# Altium footprint library IC_SMD_BGA.PCBLIB: 109 footprints (part 3 of 14)
Each footprint in its own frame and in the unit in brackets; x right, y up, seen from the top. Pads: shape width x height; smd on the part's side, far side on the other; paste and mask are expansions set on the pad; w line width, h text height; cw(c..) or ccw(c..) is an arc to the next point about the centre after c.
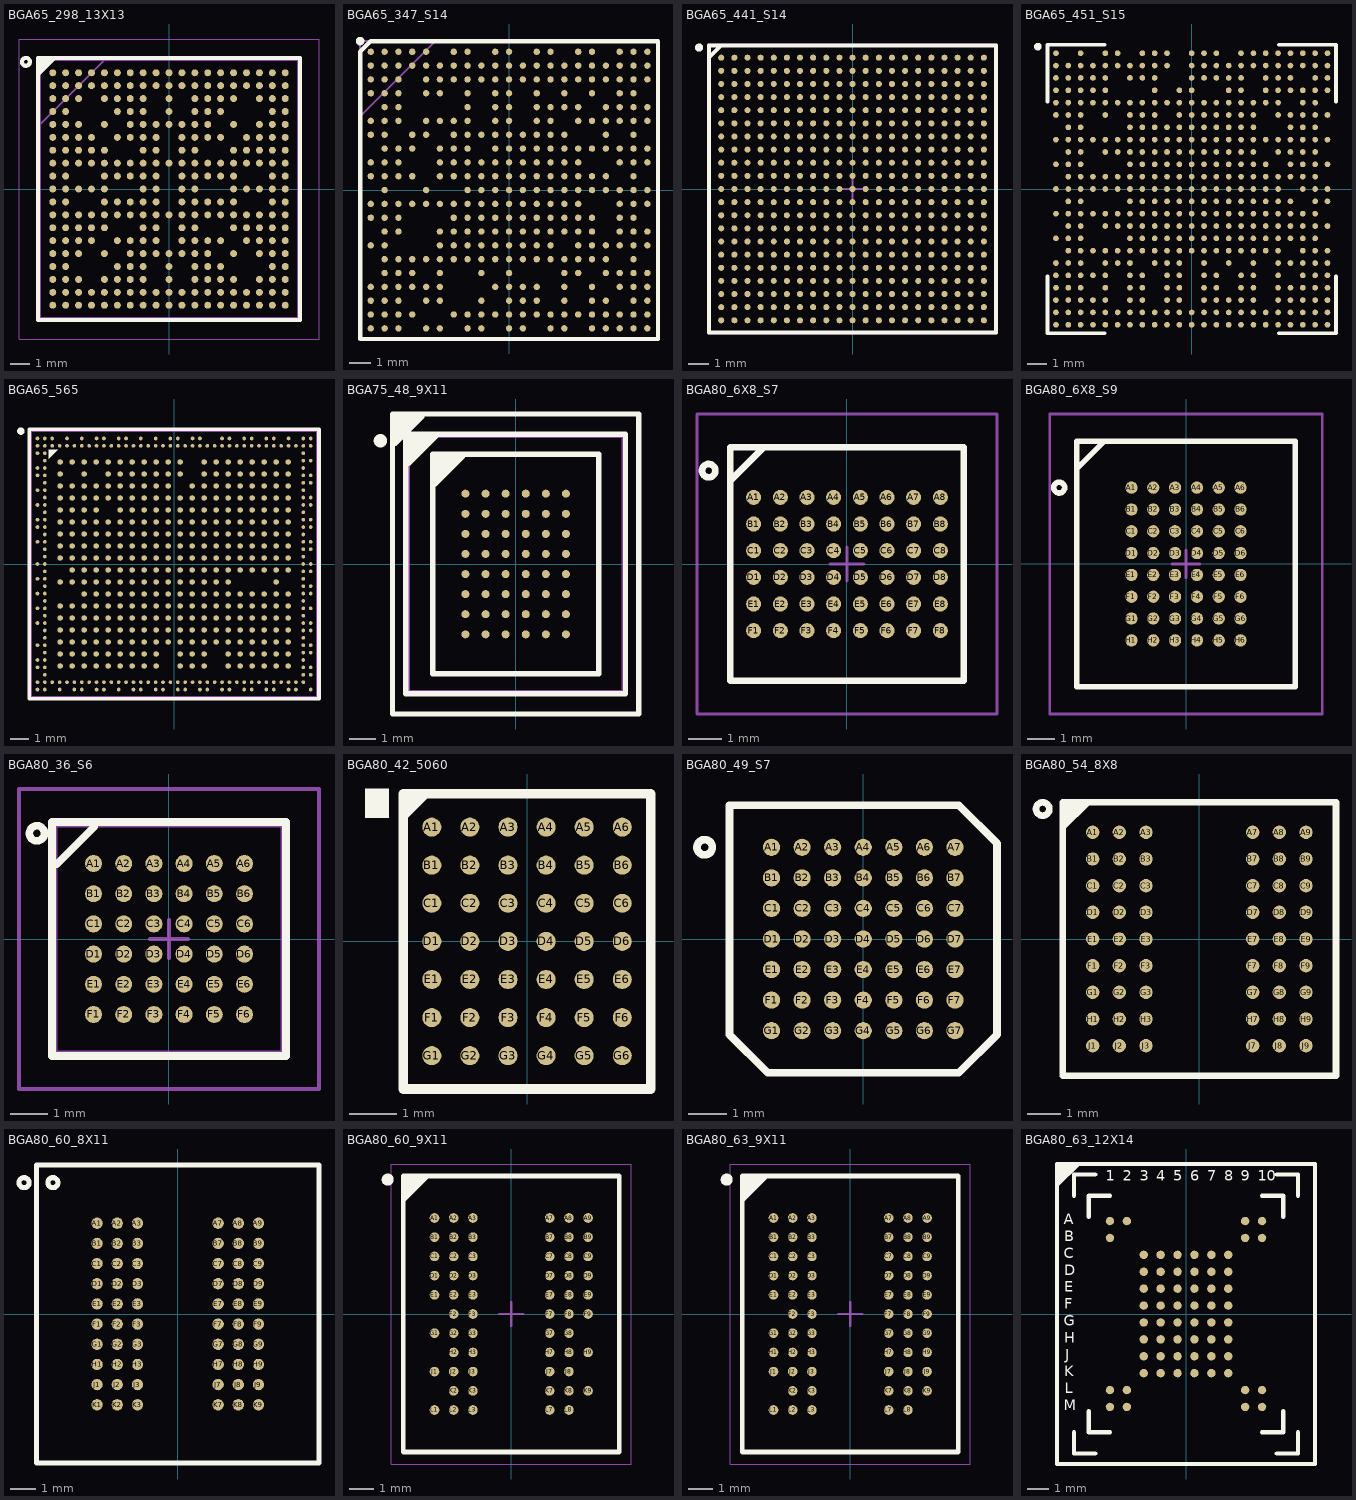
[diagram p2: the footprints below, top view; thin cyan lines are the x and y axes]

## BGA65_298_13X13 [mm] "BGA-298 ZCE, 0.65mm pitch, 13x13x1.3mm"
height 1.3
pads (298):
  round 0.35 smd mask+0.05: A1(-5.85,5.85) A2(-5.2,5.85) A3(-4.55,5.85) A4(-3.9,5.85) A5(-3.25,5.85) A6(-2.6,5.85) A7(-1.95,5.85) A8(-1.3,5.85) A9(-0.65,5.85) A10(0,5.85) A11(0.65,5.85) A12(1.3,5.85) A13(1.95,5.85) A14(2.6,5.85) A15(3.25,5.85) A16(3.9,5.85) A17(4.55,5.85) A18(5.2,5.85) A19(5.85,5.85) B1(-5.85,5.2) B2(-5.2,5.2) B3(-4.55,5.2) B4(-3.9,5.2) B5(-3.25,5.2) B6(-2.6,5.2) B7(-1.95,5.2) B8(-1.3,5.2) B9(-0.65,5.2) B10(0,5.2) B11(0.65,5.2) B12(1.3,5.2) B13(1.95,5.2) B14(2.6,5.2) B15(3.25,5.2) B16(3.9,5.2) B17(4.55,5.2) B18(5.2,5.2) B19(5.85,5.2) C1(-5.85,4.55) C2(-5.2,4.55) C3(-4.55,4.55) C5(-3.25,4.55) C6(-2.6,4.55) C7(-1.95,4.55) C8(-1.3,4.55) C10(0,4.55) C12(1.3,4.55) C13(1.95,4.55) C14(2.6,4.55) C15(3.25,4.55) C17(4.55,4.55) C18(5.2,4.55) C19(5.85,4.55) D1(-5.85,3.9) D2(-5.2,3.9) D6(-2.6,3.9) D7(-1.95,3.9) D8(-1.3,3.9) D10(0,3.9) D12(1.3,3.9) D13(1.95,3.9) D14(2.6,3.9) D18(5.2,3.9) D19(5.85,3.9) E1(-5.85,3.25) E2(-5.2,3.25) E3(-4.55,3.25) E5(-3.25,3.25) E7(-1.95,3.25) E8(-1.3,3.25) E9(-0.65,3.25) E10(0,3.25) E11(0.65,3.25) E12(1.3,3.25) E13(1.95,3.25) E15(3.25,3.25) E17(4.55,3.25) E18(5.2,3.25) E19(5.85,3.25) F1(-5.85,2.6) F2(-5.2,2.6) F3(-4.55,2.6) F4(-3.9,2.6) F6(-2.6,2.6) F7(-1.95,2.6) F8(-1.3,2.6) F9(-0.65,2.6) F11(0.65,2.6) F12(1.3,2.6) F13(1.95,2.6) F14(2.6,2.6) F16(3.9,2.6) F17(4.55,2.6) F18(5.2,2.6) F19(5.85,2.6) G1(-5.85,1.95) G2(-5.2,1.95) G3(-4.55,1.95) G4(-3.9,1.95) G5(-3.25,1.95) G8(-1.3,1.95) G9(-0.65,1.95) G11(0.65,1.95) G12(1.3,1.95) G15(3.25,1.95) G16(3.9,1.95) G17(4.55,1.95) G18(5.2,1.95) G19(5.85,1.95) H1(-5.85,1.3) H2(-5.2,1.3) H3(-4.55,1.3) H4(-3.9,1.3) H5(-3.25,1.3) H6(-2.6,1.3) H7(-1.95,1.3) H8(-1.3,1.3) H9(-0.65,1.3) H10(0,1.3) H11(0.65,1.3) H12(1.3,1.3) H13(1.95,1.3) H14(2.6,1.3) H15(3.25,1.3) H16(3.9,1.3) H17(4.55,1.3) H18(5.2,1.3) H19(5.85,1.3) J1(-5.85,0.65) J2(-5.2,0.65) J5(-3.25,0.65) J6(-2.6,0.65) J7(-1.95,0.65) J8(-1.3,0.65) J9(-0.65,0.65) J11(0.65,0.65) J12(1.3,0.65) J13(1.95,0.65) J14(2.6,0.65) J15(3.25,0.65) J18(5.2,0.65) J19(5.85,0.65) K1(-5.85,0) K2(-5.2,0) K3(-4.55,0) K4(-3.9,0) K5(-3.25,0) K8(-1.3,0) K9(-0.65,0) K11(0.65,0) K12(1.3,0) K15(3.25,0) K16(3.9,0) K17(4.55,0) K18(5.2,0) K19(5.85,0) L1(-5.85,-0.65) L2(-5.2,-0.65) L5(-3.25,-0.65) L6(-2.6,-0.65) L7(-1.95,-0.65) L8(-1.3,-0.65) L9(-0.65,-0.65) L11(0.65,-0.65) L12(1.3,-0.65) L13(1.95,-0.65) L14(2.6,-0.65) L15(3.25,-0.65) L18(5.2,-0.65) L19(5.85,-0.65) M1(-5.85,-1.3) M2(-5.2,-1.3) M3(-4.55,-1.3) M4(-3.9,-1.3) M5(-3.25,-1.3) M6(-2.6,-1.3) M7(-1.95,-1.3) M8(-1.3,-1.3) M9(-0.65,-1.3) M10(0,-1.3) M11(0.65,-1.3) M12(1.3,-1.3) M13(1.95,-1.3) M14(2.6,-1.3) M15(3.25,-1.3) M16(3.9,-1.3) M17(4.55,-1.3) M18(5.2,-1.3) M19(5.85,-1.3) N1(-5.85,-1.95) N2(-5.2,-1.95) N3(-4.55,-1.95) N4(-3.9,-1.95) N5(-3.25,-1.95) N8(-1.3,-1.95) N9(-0.65,-1.95) N11(0.65,-1.95) N12(1.3,-1.95) N15(3.25,-1.95) N16(3.9,-1.95) N17(4.55,-1.95) N18(5.2,-1.95) N19(5.85,-1.95) P1(-5.85,-2.6) P2(-5.2,-2.6) P3(-4.55,-2.6) P4(-3.9,-2.6) P6(-2.6,-2.6) P7(-1.95,-2.6) P8(-1.3,-2.6) P9(-0.65,-2.6) P11(0.65,-2.6) P12(1.3,-2.6) P13(1.95,-2.6) P14(2.6,-2.6) P16(3.9,-2.6) P17(4.55,-2.6) P18(5.2,-2.6) P19(5.85,-2.6) R1(-5.85,-3.25) R2(-5.2,-3.25) R3(-4.55,-3.25) R5(-3.25,-3.25) R7(-1.95,-3.25) R8(-1.3,-3.25) R9(-0.65,-3.25) R10(0,-3.25) R11(0.65,-3.25) R12(1.3,-3.25) R13(1.95,-3.25) R15(3.25,-3.25) R17(4.55,-3.25) R18(5.2,-3.25) R19(5.85,-3.25) T1(-5.85,-3.9) T2(-5.2,-3.9) T6(-2.6,-3.9) T7(-1.95,-3.9) T8(-1.3,-3.9) T10(0,-3.9) T12(1.3,-3.9) T13(1.95,-3.9) T14(2.6,-3.9) T18(5.2,-3.9) T19(5.85,-3.9) U1(-5.85,-4.55) U2(-5.2,-4.55) U3(-4.55,-4.55) U5(-3.25,-4.55) U6(-2.6,-4.55) U7(-1.95,-4.55) U8(-1.3,-4.55) U10(0,-4.55) U12(1.3,-4.55) U13(1.95,-4.55) U14(2.6,-4.55) U15(3.25,-4.55) U17(4.55,-4.55) U18(5.2,-4.55) U19(5.85,-4.55) V1(-5.85,-5.2) V2(-5.2,-5.2) V3(-4.55,-5.2) V4(-3.9,-5.2) V5(-3.25,-5.2) V6(-2.6,-5.2) V7(-1.95,-5.2) V8(-1.3,-5.2) V9(-0.65,-5.2) V10(0,-5.2) V11(0.65,-5.2) V12(1.3,-5.2) V13(1.95,-5.2) V14(2.6,-5.2) V15(3.25,-5.2) V16(3.9,-5.2) V17(4.55,-5.2) V18(5.2,-5.2) V19(5.85,-5.2) W1(-5.85,-5.85) W2(-5.2,-5.85) W3(-4.55,-5.85) W4(-3.9,-5.85) W5(-3.25,-5.85) W6(-2.6,-5.85) W7(-1.95,-5.85) W8(-1.3,-5.85) W9(-0.65,-5.85) W10(0,-5.85) W11(0.65,-5.85) W12(1.3,-5.85) W13(1.95,-5.85) W14(2.6,-5.85) W15(3.25,-5.85) W16(3.9,-5.85) W17(4.55,-5.85) W18(5.2,-5.85) W19(5.85,-5.85)
TopOverlay:
  circle w0.2: c-7.2,6.4 r0.2
  region: -6.6,6.6 -5.75,6.6 -6.6,5.75
  lines w0.2: -6.6,5.75 -5.75,6.6 ; -6.6,5.75 -6.6,-6.6 6.6,-6.6 6.6,6.6 -5.75,6.6 ; -6.6,5.75 -6.6,6.6 -5.75,6.6
Mechanical13:
  lines w0.1: -6.5,3.225 -3.225,6.5 ; -6.5,-6.5 -6.5,6.5 6.5,6.5 6.5,-6.5 -6.5,-6.5
Mechanical15:
  lines w0.05: -7.55,-7.55 -7.55,7.55 7.55,7.55 7.55,-7.55 -7.55,-7.55
3D body "AM3358BZCE60.stp": height 1.3, standoff 0, extent -6.5,-6.5 6.5,6.5

## BGA65_347_S14 [mm] "ALLWINNER H3, pitch 0.65mm, 14x14x1.2mm"
height 1.2
pads (347):
  round 0.3 smd mask+0.05: A1(-6.5,6.5) A2(-5.85,6.5) A3(-5.2,6.5) A4(-4.55,6.5) A5(-3.9,6.5) A7(-2.6,6.5) A8(-1.95,6.5) A10(-0.65,6.5) A11(0,6.5) A13(1.3,6.5) A14(1.95,6.5) A16(3.25,6.5) A17(3.9,6.5) A19(5.2,6.5) A20(5.85,6.5) A21(6.5,6.5) AA1(-6.5,-6.5) AA2(-5.85,-6.5) AA3(-5.2,-6.5) AA5(-3.9,-6.5) AA6(-3.25,-6.5) AA8(-1.95,-6.5) AA9(-1.3,-6.5) AA11(0,-6.5) AA12(0.65,-6.5) AA14(1.95,-6.5) AA15(2.6,-6.5) AA17(3.9,-6.5) AA18(4.55,-6.5) AA19(5.2,-6.5) AA20(5.85,-6.5) AA21(6.5,-6.5) B1(-6.5,5.85) B2(-5.85,5.85) B3(-5.2,5.85) B4(-4.55,5.85) B5(-3.9,5.85) B6(-3.25,5.85) B7(-2.6,5.85) B8(-1.95,5.85) B9(-1.3,5.85) B10(-0.65,5.85) B11(0,5.85) B12(0.65,5.85) B13(1.3,5.85) B14(1.95,5.85) B15(2.6,5.85) B16(3.25,5.85) B17(3.9,5.85) B18(4.55,5.85) B19(5.2,5.85) B20(5.85,5.85) B21(6.5,5.85) C1(-6.5,5.2) C2(-5.85,5.2) C3(-5.2,5.2) C5(-3.9,5.2) C6(-3.25,5.2) C7(-2.6,5.2) C8(-1.95,5.2) C9(-1.3,5.2) C10(-0.65,5.2) C11(0,5.2) C12(0.65,5.2) C13(1.3,5.2) C14(1.95,5.2) C15(2.6,5.2) C16(3.25,5.2) C17(3.9,5.2) C18(4.55,5.2) C19(5.2,5.2) C20(5.85,5.2) C21(6.5,5.2) D1(-6.5,4.55) D2(-5.85,4.55) D3(-5.2,4.55) D5(-3.9,4.55) D6(-3.25,4.55) D8(-1.95,4.55) D10(-0.65,4.55) D11(0,4.55) D13(1.3,4.55) D15(2.6,4.55) D17(3.9,4.55) D19(5.2,4.55) D20(5.85,4.55) E2(-5.85,3.9) E3(-5.2,3.9) E8(-1.95,3.9) E10(-0.65,3.9) E11(0,3.9) E13(1.3,3.9) E14(1.95,3.9) E15(2.6,3.9) E16(3.25,3.9) E18(4.55,3.9) E19(5.2,3.9) E20(5.85,3.9) E21(6.5,3.9) F1(-6.5,3.25) F2(-5.85,3.25) F3(-5.2,3.25) F5(-3.9,3.25) F6(-3.25,3.25) F7(-2.6,3.25) F8(-1.95,3.25) F10(-0.65,3.25) F11(0,3.25) F13(1.3,3.25) F14(1.95,3.25) F16(3.25,3.25) F17(3.9,3.25) F18(4.55,3.25) F19(5.2,3.25) F20(5.85,3.25) F21(6.5,3.25) G1(-6.5,2.6) G2(-5.85,2.6) G4(-4.55,2.6) G5(-3.9,2.6) G7(-2.6,2.6) G8(-1.95,2.6) G9(-1.3,2.6) G10(-0.65,2.6) G11(0,2.6) G12(0.65,2.6) G13(1.3,2.6) G14(1.95,2.6) G15(2.6,2.6) G18(4.55,2.6) G20(5.85,2.6) H2(-5.85,1.95) H3(-5.2,1.95) H4(-4.55,1.95) H6(-3.25,1.95) H7(-2.6,1.95) H8(-1.95,1.95) H10(-0.65,1.95) H11(0,1.95) H12(0.65,1.95) H13(1.3,1.95) H14(1.95,1.95) H15(2.6,1.95) H16(3.25,1.95) H17(3.9,1.95) H18(4.55,1.95) H19(5.2,1.95) H20(5.85,1.95) H21(6.5,1.95) J1(-6.5,1.3) J2(-5.85,1.3) J3(-5.2,1.3) J6(-3.25,1.3) J7(-2.6,1.3) J8(-1.95,1.3) J9(-1.3,1.3) J10(-0.65,1.3) J11(0,1.3) J12(0.65,1.3) J13(1.3,1.3) J14(1.95,1.3) J15(2.6,1.3) J16(3.25,1.3) J19(5.2,1.3) J20(5.85,1.3) J21(6.5,1.3) K1(-6.5,0.65) K2(-5.85,0.65) K3(-5.2,0.65) K4(-4.55,0.65) K6(-3.25,0.65) K7(-2.6,0.65) K8(-1.95,0.65) K9(-1.3,0.65) K10(-0.65,0.65) K11(0,0.65) K12(0.65,0.65) K13(1.3,0.65) K14(1.95,0.65) K15(2.6,0.65) K16(3.25,0.65) K17(3.9,0.65) K18(4.55,0.65) K20(5.85,0.65) L2(-5.85,0) L5(-3.9,0) L8(-1.95,0) L9(-1.3,0) L10(-0.65,0) L11(0,0) L12(0.65,0) L13(1.3,0) L14(1.95,0) L15(2.6,0) L16(3.25,0) L17(3.9,0) L18(4.55,0) L19(5.2,0) L20(5.85,0) L21(6.5,0) M1(-6.5,-0.65) M2(-5.85,-0.65) M3(-5.2,-0.65) M4(-4.55,-0.65) M5(-3.9,-0.65) M6(-3.25,-0.65) M7(-2.6,-0.65) M8(-1.95,-0.65) M9(-1.3,-0.65) M10(-0.65,-0.65) M11(0,-0.65) M12(0.65,-0.65) M13(1.3,-0.65) M14(1.95,-0.65) M15(2.6,-0.65) M16(3.25,-0.65) M19(5.2,-0.65) M20(5.85,-0.65) M21(6.5,-0.65) N1(-6.5,-1.3) N2(-5.85,-1.3) N3(-5.2,-1.3) N7(-2.6,-1.3) N8(-1.95,-1.3) N9(-1.3,-1.3) N10(-0.65,-1.3) N11(0,-1.3) N12(0.65,-1.3) N13(1.3,-1.3) N14(1.95,-1.3) N15(2.6,-1.3) N16(3.25,-1.3) N17(3.9,-1.3) N19(5.2,-1.3) N20(5.85,-1.3) P2(-5.85,-1.95) P3(-5.2,-1.95) P6(-3.25,-1.95) P7(-2.6,-1.95) P8(-1.95,-1.95) P9(-1.3,-1.95) P10(-0.65,-1.95) P11(0,-1.95) P12(0.65,-1.95) P13(1.3,-1.95) P14(1.95,-1.95) P15(2.6,-1.95) P16(3.25,-1.95) P17(3.9,-1.95) P19(5.2,-1.95) P20(5.85,-1.95) P21(6.5,-1.95) R1(-6.5,-2.6) R2(-5.85,-2.6) R6(-3.25,-2.6) R7(-2.6,-2.6) R8(-1.95,-2.6) R9(-1.3,-2.6) R10(-0.65,-2.6) R11(0,-2.6) R12(0.65,-2.6) R13(1.3,-2.6) R14(1.95,-2.6) R16(3.25,-2.6) R17(3.9,-2.6) R18(4.55,-2.6) R19(5.2,-2.6) R20(5.85,-2.6) R21(6.5,-2.6) T2(-5.85,-3.25) T3(-5.2,-3.25) T4(-4.55,-3.25) T5(-3.9,-3.25) T6(-3.25,-3.25) T7(-2.6,-3.25) T8(-1.95,-3.25) T9(-1.3,-3.25) T10(-0.65,-3.25) T11(0,-3.25) T12(0.65,-3.25) T13(1.3,-3.25) T14(1.95,-3.25) T15(2.6,-3.25) T16(3.25,-3.25) T17(3.9,-3.25) T18(4.55,-3.25) T20(5.85,-3.25) U2(-5.85,-3.9) U3(-5.2,-3.9) U4(-4.55,-3.9) U6(-3.25,-3.9) U9(-1.3,-3.9) U11(0,-3.9) U15(2.6,-3.9) U16(3.25,-3.9) U18(4.55,-3.9) U19(5.2,-3.9) U20(5.85,-3.9) U21(6.5,-3.9) V1(-6.5,-4.55) V2(-5.85,-4.55) V3(-5.2,-4.55) V4(-4.55,-4.55) V5(-3.9,-4.55) V6(-3.25,-4.55) V10(-0.65,-4.55) V11(0,-4.55) V12(0.65,-4.55) V13(1.3,-4.55) V15(2.6,-4.55) V17(3.9,-4.55) V19(5.2,-4.55) V20(5.85,-4.55) V21(6.5,-4.55) W1(-6.5,-5.2) W2(-5.85,-5.2) W3(-5.2,-5.2) W5(-3.9,-5.2) W6(-3.25,-5.2) W9(-1.3,-5.2) W11(0,-5.2) W12(0.65,-5.2) W13(1.3,-5.2) W15(2.6,-5.2) W17(3.9,-5.2) W18(4.55,-5.2) W20(5.85,-5.2) W21(6.5,-5.2) Y1(-6.5,-5.85) Y2(-5.85,-5.85) Y3(-5.2,-5.85) Y4(-4.55,-5.85) Y7(-2.6,-5.85) Y8(-1.95,-5.85) Y9(-1.3,-5.85) Y10(-0.65,-5.85) Y11(0,-5.85) Y12(0.65,-5.85) Y13(1.3,-5.85) Y14(1.95,-5.85) Y15(2.6,-5.85) Y16(3.25,-5.85) Y17(3.9,-5.85) Y18(4.55,-5.85) Y19(5.2,-5.85) Y20(5.85,-5.85) Y21(6.5,-5.85)
TopOverlay:
  circle w0.2: c-7,7 r0.1
  lines w0.2: -7,-7 -7,6.5 -6.5,7 7,7 7,-7 -7,-7
Mechanical13:
  lines w0.1: -7,3.475 -3.475,7 ; -7,-7 -7,7 7,7 7,-7 -7,-7
3D body "Allwinner_H3.stp": height 1.18, standoff 0, extent -7,-7 7,7

## BGA65_441_S14 [mm]
pads (441):
  round 0.3 smd mask+0.05: A1(-6.5,6.5) A2(-5.85,6.5) A3(-5.2,6.5) A4(-4.55,6.5) A5(-3.9,6.5) A6(-3.25,6.5) A7(-2.6,6.5) A8(-1.95,6.5) A9(-1.3,6.5) A10(-0.65,6.5) A11(0,6.5) A12(0.65,6.5) A13(1.3,6.5) A14(1.95,6.5) A15(2.6,6.5) A16(3.25,6.5) A17(3.9,6.5) A18(4.55,6.5) A19(5.2,6.5) A20(5.85,6.5) A21(6.5,6.5) AA1(-6.5,-6.5) AA2(-5.85,-6.5) AA3(-5.2,-6.5) AA4(-4.55,-6.5) AA5(-3.9,-6.5) AA6(-3.25,-6.5) AA7(-2.6,-6.5) AA8(-1.95,-6.5) AA9(-1.3,-6.5) AA10(-0.65,-6.5) AA11(0,-6.5) AA12(0.65,-6.5) AA13(1.3,-6.5) AA14(1.95,-6.5) AA15(2.6,-6.5) AA16(3.25,-6.5) AA17(3.9,-6.5) AA18(4.55,-6.5) AA19(5.2,-6.5) AA20(5.85,-6.5) AA21(6.5,-6.5) B1(-6.5,5.85) B2(-5.85,5.85) B3(-5.2,5.85) B4(-4.55,5.85) B5(-3.9,5.85) B6(-3.25,5.85) B7(-2.6,5.85) B8(-1.95,5.85) B9(-1.3,5.85) B10(-0.65,5.85) B11(0,5.85) B12(0.65,5.85) B13(1.3,5.85) B14(1.95,5.85) B15(2.6,5.85) B16(3.25,5.85) B17(3.9,5.85) B18(4.55,5.85) B19(5.2,5.85) B20(5.85,5.85) B21(6.5,5.85) C1(-6.5,5.2) C2(-5.85,5.2) C3(-5.2,5.2) C4(-4.55,5.2) C5(-3.9,5.2) C6(-3.25,5.2) C7(-2.6,5.2) C8(-1.95,5.2) C9(-1.3,5.2) C10(-0.65,5.2) C11(0,5.2) C12(0.65,5.2) C13(1.3,5.2) C14(1.95,5.2) C15(2.6,5.2) C16(3.25,5.2) C17(3.9,5.2) C18(4.55,5.2) C19(5.2,5.2) C20(5.85,5.2) C21(6.5,5.2) D1(-6.5,4.55) D2(-5.85,4.55) D3(-5.2,4.55) D4(-4.55,4.55) D5(-3.9,4.55) D6(-3.25,4.55) D7(-2.6,4.55) D8(-1.95,4.55) D9(-1.3,4.55) D10(-0.65,4.55) D11(0,4.55) D12(0.65,4.55) D13(1.3,4.55) D14(1.95,4.55) D15(2.6,4.55) D16(3.25,4.55) D17(3.9,4.55) D18(4.55,4.55) D19(5.2,4.55) D20(5.85,4.55) D21(6.5,4.55) E1(-6.5,3.9) E2(-5.85,3.9) E3(-5.2,3.9) E4(-4.55,3.9) E5(-3.9,3.9) E6(-3.25,3.9) E7(-2.6,3.9) E8(-1.95,3.9) E9(-1.3,3.9) E10(-0.65,3.9) E11(0,3.9) E12(0.65,3.9) E13(1.3,3.9) E14(1.95,3.9) E15(2.6,3.9) E16(3.25,3.9) E17(3.9,3.9) E18(4.55,3.9) E19(5.2,3.9) E20(5.85,3.9) E21(6.5,3.9) F1(-6.5,3.25) F2(-5.85,3.25) F3(-5.2,3.25) F4(-4.55,3.25) F5(-3.9,3.25) F6(-3.25,3.25) F7(-2.6,3.25) F8(-1.95,3.25) F9(-1.3,3.25) F10(-0.65,3.25) F11(0,3.25) F12(0.65,3.25) F13(1.3,3.25) F14(1.95,3.25) F15(2.6,3.25) F16(3.25,3.25) F17(3.9,3.25) F18(4.55,3.25) F19(5.2,3.25) F20(5.85,3.25) F21(6.5,3.25) G1(-6.5,2.6) G2(-5.85,2.6) G3(-5.2,2.6) G4(-4.55,2.6) G5(-3.9,2.6) G6(-3.25,2.6) G7(-2.6,2.6) G8(-1.95,2.6) G9(-1.3,2.6) G10(-0.65,2.6) G11(0,2.6) G12(0.65,2.6) G13(1.3,2.6) G14(1.95,2.6) G15(2.6,2.6) G16(3.25,2.6) G17(3.9,2.6) G18(4.55,2.6) G19(5.2,2.6) G20(5.85,2.6) G21(6.5,2.6) H1(-6.5,1.95) H2(-5.85,1.95) H3(-5.2,1.95) H4(-4.55,1.95) H5(-3.9,1.95) H6(-3.25,1.95) H7(-2.6,1.95) H8(-1.95,1.95) H9(-1.3,1.95) H10(-0.65,1.95) H11(0,1.95) H12(0.65,1.95) H13(1.3,1.95) H14(1.95,1.95) H15(2.6,1.95) H16(3.25,1.95) H17(3.9,1.95) H18(4.55,1.95) H19(5.2,1.95) H20(5.85,1.95) H21(6.5,1.95) J1(-6.5,1.3) J2(-5.85,1.3) J3(-5.2,1.3) J4(-4.55,1.3) J5(-3.9,1.3) J6(-3.25,1.3) J7(-2.6,1.3) J8(-1.95,1.3) J9(-1.3,1.3) J10(-0.65,1.3) J11(0,1.3) J12(0.65,1.3) J13(1.3,1.3) J14(1.95,1.3) J15(2.6,1.3) J16(3.25,1.3) J17(3.9,1.3) J18(4.55,1.3) J19(5.2,1.3) J20(5.85,1.3) J21(6.5,1.3) K1(-6.5,0.65) K2(-5.85,0.65) K3(-5.2,0.65) K4(-4.55,0.65) K5(-3.9,0.65) K6(-3.25,0.65) K7(-2.6,0.65) K8(-1.95,0.65) K9(-1.3,0.65) K10(-0.65,0.65) K11(0,0.65) K12(0.65,0.65) K13(1.3,0.65) K14(1.95,0.65) K15(2.6,0.65) K16(3.25,0.65) K17(3.9,0.65) K18(4.55,0.65) K19(5.2,0.65) K20(5.85,0.65) K21(6.5,0.65) L1(-6.5,0) L2(-5.85,0) L3(-5.2,0) L4(-4.55,0) L5(-3.9,0) L6(-3.25,0) L7(-2.6,0) L8(-1.95,0) L9(-1.3,0) L10(-0.65,0) L11(0,0) L12(0.65,0) L13(1.3,0) L14(1.95,0) L15(2.6,0) L16(3.25,0) L17(3.9,0) L18(4.55,0) L19(5.2,0) L20(5.85,0) L21(6.5,0) M1(-6.5,-0.65) M2(-5.85,-0.65) M3(-5.2,-0.65) M4(-4.55,-0.65) M5(-3.9,-0.65) M6(-3.25,-0.65) M7(-2.6,-0.65) M8(-1.95,-0.65) M9(-1.3,-0.65) M10(-0.65,-0.65) M11(0,-0.65) M12(0.65,-0.65) M13(1.3,-0.65) M14(1.95,-0.65) M15(2.6,-0.65) M16(3.25,-0.65) M17(3.9,-0.65) M18(4.55,-0.65) M19(5.2,-0.65) M20(5.85,-0.65) M21(6.5,-0.65) N1(-6.5,-1.3) N2(-5.85,-1.3) N3(-5.2,-1.3) N4(-4.55,-1.3) N5(-3.9,-1.3) N6(-3.25,-1.3) N7(-2.6,-1.3) N8(-1.95,-1.3) N9(-1.3,-1.3) N10(-0.65,-1.3) N11(0,-1.3) N12(0.65,-1.3) N13(1.3,-1.3) N14(1.95,-1.3) N15(2.6,-1.3) N16(3.25,-1.3) N17(3.9,-1.3) N18(4.55,-1.3) N19(5.2,-1.3) N20(5.85,-1.3) N21(6.5,-1.3) P1(-6.5,-1.95) P2(-5.85,-1.95) P3(-5.2,-1.95) P4(-4.55,-1.95) P5(-3.9,-1.95) P6(-3.25,-1.95) P7(-2.6,-1.95) P8(-1.95,-1.95) P9(-1.3,-1.95) P10(-0.65,-1.95) P11(0,-1.95) P12(0.65,-1.95) P13(1.3,-1.95) P14(1.95,-1.95) P15(2.6,-1.95) P16(3.25,-1.95) P17(3.9,-1.95) P18(4.55,-1.95) P19(5.2,-1.95) P20(5.85,-1.95) P21(6.5,-1.95) R1(-6.5,-2.6) R2(-5.85,-2.6) R3(-5.2,-2.6) R4(-4.55,-2.6) R5(-3.9,-2.6) R6(-3.25,-2.6) R7(-2.6,-2.6) R8(-1.95,-2.6) R9(-1.3,-2.6) R10(-0.65,-2.6) R11(0,-2.6) R12(0.65,-2.6) R13(1.3,-2.6) R14(1.95,-2.6) R15(2.6,-2.6) R16(3.25,-2.6) R17(3.9,-2.6) R18(4.55,-2.6) R19(5.2,-2.6) R20(5.85,-2.6) R21(6.5,-2.6) T1(-6.5,-3.25) T2(-5.85,-3.25) T3(-5.2,-3.25) T4(-4.55,-3.25) T5(-3.9,-3.25) T6(-3.25,-3.25) T7(-2.6,-3.25) T8(-1.95,-3.25) T9(-1.3,-3.25) T10(-0.65,-3.25) T11(0,-3.25) T12(0.65,-3.25) T13(1.3,-3.25) T14(1.95,-3.25) T15(2.6,-3.25) T16(3.25,-3.25) T17(3.9,-3.25) T18(4.55,-3.25) T19(5.2,-3.25) T20(5.85,-3.25) T21(6.5,-3.25) U1(-6.5,-3.9) U2(-5.85,-3.9) U3(-5.2,-3.9) U4(-4.55,-3.9) U5(-3.9,-3.9) U6(-3.25,-3.9) U7(-2.6,-3.9) U8(-1.95,-3.9) U9(-1.3,-3.9) U10(-0.65,-3.9) U11(0,-3.9) U12(0.65,-3.9) U13(1.3,-3.9) U14(1.95,-3.9) U15(2.6,-3.9) U16(3.25,-3.9) U17(3.9,-3.9) U18(4.55,-3.9) U19(5.2,-3.9) U20(5.85,-3.9) U21(6.5,-3.9) V1(-6.5,-4.55) V2(-5.85,-4.55) V3(-5.2,-4.55) V4(-4.55,-4.55) V5(-3.9,-4.55) V6(-3.25,-4.55) V7(-2.6,-4.55) V8(-1.95,-4.55) V9(-1.3,-4.55) V10(-0.65,-4.55) V11(0,-4.55) V12(0.65,-4.55) V13(1.3,-4.55) V14(1.95,-4.55) V15(2.6,-4.55) V16(3.25,-4.55) V17(3.9,-4.55) V18(4.55,-4.55) V19(5.2,-4.55) V20(5.85,-4.55) V21(6.5,-4.55) W1(-6.5,-5.2) W2(-5.85,-5.2) W3(-5.2,-5.2) W4(-4.55,-5.2) W5(-3.9,-5.2) W6(-3.25,-5.2) W7(-2.6,-5.2) W8(-1.95,-5.2) W9(-1.3,-5.2) W10(-0.65,-5.2) W11(0,-5.2) W12(0.65,-5.2) W13(1.3,-5.2) W14(1.95,-5.2) W15(2.6,-5.2) W16(3.25,-5.2) W17(3.9,-5.2) W18(4.55,-5.2) W19(5.2,-5.2) W20(5.85,-5.2) W21(6.5,-5.2) Y1(-6.5,-5.85) Y2(-5.85,-5.85) Y3(-5.2,-5.85) Y4(-4.55,-5.85) Y5(-3.9,-5.85) Y6(-3.25,-5.85) Y7(-2.6,-5.85) Y8(-1.95,-5.85) Y9(-1.3,-5.85) Y10(-0.65,-5.85) Y11(0,-5.85) Y12(0.65,-5.85) Y13(1.3,-5.85) Y14(1.95,-5.85) Y15(2.6,-5.85) Y16(3.25,-5.85) Y17(3.9,-5.85) Y18(4.55,-5.85) Y19(5.2,-5.85) Y20(5.85,-5.85) Y21(6.5,-5.85)
TopOverlay:
  circle w0.2: c-7.6,7 r0.1
  lines w0.2: -7.1,6.5 -6.5,7.1 ; -7.1,-7.1 -7.1,7.1 7.1,7.1 7.1,-7.1 -7.1,-7.1
Mechanical13:
  lines w0.1: -7.135,-7.15 -7.135,7.15 7.15,7.15 7.15,-7.15 -7.135,-7.15
Mechanical15:
  lines w0.1: -0.5,0 0.5,0 ; 0,-0.5 0,0.5 ; -7.15,-7.15 -7.15,7.15 7.15,7.15 7.15,-7.15 -7.15,-7.15
3D body: height 1.75, standoff 0, extent -7.15,-7.15 7.15,7.15

## BGA65_451_S15 [mm] "ALLWINNER H6, pitch 0.65mm, 15x15x1.2mm"
height 1.2
pads (451):
  round 0.3 smd mask+0.05: A1(-7.15,7.15) A3(-5.85,7.15) A5(-4.55,7.15) A6(-3.9,7.15) A8(-2.6,7.15) A9(-1.95,7.15) A10(-1.3,7.15) A12(0,7.15) A13(0.65,7.15) A14(1.3,7.15) A16(2.6,7.15) A17(3.25,7.15) A18(3.9,7.15) A19(4.55,7.15) A20(5.2,7.15) A21(5.85,7.15) A22(6.5,7.15) A23(7.15,7.15) AA1(-7.15,-5.85) AA2(-6.5,-5.85) AA3(-5.85,-5.85) AA4(-5.2,-5.85) AA5(-4.55,-5.85) AA7(-3.25,-5.85) AA8(-2.6,-5.85) AA10(-1.3,-5.85) AA11(-0.65,-5.85) AA13(0.65,-5.85) AA14(1.3,-5.85) AA15(1.95,-5.85) AA16(2.6,-5.85) AA17(3.25,-5.85) AA19(4.55,-5.85) AA20(5.2,-5.85) AA21(5.85,-5.85) AA22(6.5,-5.85) AA23(7.15,-5.85) AB1(-7.15,-6.5) AB2(-6.5,-6.5) AB3(-5.85,-6.5) AB4(-5.2,-6.5) AB5(-4.55,-6.5) AB6(-3.9,-6.5) AB7(-3.25,-6.5) AB8(-2.6,-6.5) AB9(-1.95,-6.5) AB10(-1.3,-6.5) AB11(-0.65,-6.5) AB12(0,-6.5) AB13(0.65,-6.5) AB14(1.3,-6.5) AB15(1.95,-6.5) AB16(2.6,-6.5) AB17(3.25,-6.5) AB18(3.9,-6.5) AB19(4.55,-6.5) AB20(5.2,-6.5) AB21(5.85,-6.5) AB22(6.5,-6.5) AB23(7.15,-6.5) AC1(-7.15,-7.15) AC2(-6.5,-7.15) AC3(-5.85,-7.15) AC4(-5.2,-7.15) AC5(-4.55,-7.15) AC6(-3.9,-7.15) AC7(-3.25,-7.15) AC8(-2.6,-7.15) AC9(-1.95,-7.15) AC10(-1.3,-7.15) AC11(-0.65,-7.15) AC12(0,-7.15) AC13(0.65,-7.15) AC14(1.3,-7.15) AC15(1.95,-7.15) AC16(2.6,-7.15) AC17(3.25,-7.15) AC18(3.9,-7.15) AC19(4.55,-7.15) AC20(5.2,-7.15) AC21(5.85,-7.15) AC22(6.5,-7.15) AC23(7.15,-7.15) B1(-7.15,6.5) B2(-6.5,6.5) B3(-5.85,6.5) B4(-5.2,6.5) B5(-4.55,6.5) B6(-3.9,6.5) B7(-3.25,6.5) B8(-2.6,6.5) B9(-1.95,6.5) B10(-1.3,6.5) B12(0,6.5) B13(0.65,6.5) B14(1.3,6.5) B15(1.95,6.5) B16(2.6,6.5) B17(3.25,6.5) B18(3.9,6.5) B19(4.55,6.5) B20(5.2,6.5) B21(5.85,6.5) B22(6.5,6.5) B23(7.15,6.5) C1(-7.15,5.85) C2(-6.5,5.85) C3(-5.85,5.85) C4(-5.2,5.85) C5(-4.55,5.85) C7(-3.25,5.85) C8(-2.6,5.85) C9(-1.95,5.85) C12(0,5.85) C13(0.65,5.85) C14(1.3,5.85) C15(1.95,5.85) C16(2.6,5.85) C18(3.9,5.85) C19(4.55,5.85) C20(5.2,5.85) C22(6.5,5.85) C23(7.15,5.85) D1(-7.15,5.2) D2(-6.5,5.2) D3(-5.85,5.2) D4(-5.2,5.2) D5(-4.55,5.2) D9(-1.95,5.2) D11(-0.65,5.2) D12(0,5.2) D15(1.95,5.2) D16(2.6,5.2) D18(3.9,5.2) D19(4.55,5.2) D20(5.2,5.2) D21(5.85,5.2) D22(6.5,5.2) D23(7.15,5.2) E1(-7.15,4.55) E2(-6.5,4.55) E3(-5.85,4.55) E4(-5.2,4.55) E5(-4.55,4.55) E6(-3.9,4.55) E7(-3.25,4.55) E8(-2.6,4.55) E9(-1.95,4.55) E10(-1.3,4.55) E11(-0.65,4.55) E12(0,4.55) E13(0.65,4.55) E14(1.3,4.55) E15(1.95,4.55) E16(2.6,4.55) E17(3.25,4.55) E18(3.9,4.55) E19(4.55,4.55) E21(5.85,4.55) E22(6.5,4.55) F1(-7.15,3.9) F2(-6.5,3.9) F3(-5.85,3.9) F5(-4.55,3.9) F7(-3.25,3.9) F8(-2.6,3.9) F9(-1.95,3.9) F11(-0.65,3.9) F12(0,3.9) F13(0.65,3.9) F14(1.3,3.9) F15(1.95,3.9) F16(2.6,3.9) F17(3.25,3.9) F19(4.55,3.9) F20(5.2,3.9) F21(5.85,3.9) F22(6.5,3.9) F23(7.15,3.9) G2(-6.5,3.25) G3(-5.85,3.25) G7(-3.25,3.25) G8(-2.6,3.25) G9(-1.95,3.25) G10(-1.3,3.25) G11(-0.65,3.25) G12(0,3.25) G13(0.65,3.25) G14(1.3,3.25) G15(1.95,3.25) G16(2.6,3.25) G17(3.25,3.25) G20(5.2,3.25) G21(5.85,3.25) G22(6.5,3.25) H1(-7.15,2.6) H2(-6.5,2.6) H3(-5.85,2.6) H4(-5.2,2.6) H5(-4.55,2.6) H6(-3.9,2.6) H7(-3.25,2.6) H8(-2.6,2.6) H9(-1.95,2.6) H10(-1.3,2.6) H11(-0.65,2.6) H12(0,2.6) H13(0.65,2.6) H14(1.3,2.6) H15(1.95,2.6) H16(2.6,2.6) H17(3.25,2.6) H18(3.9,2.6) H19(4.55,2.6) H20(5.2,2.6) H21(5.85,2.6) H22(6.5,2.6) H23(7.15,2.6) J2(-6.5,1.95) J3(-5.85,1.95) J5(-4.55,1.95) J6(-3.9,1.95) J7(-3.25,1.95) J8(-2.6,1.95) J9(-1.95,1.95) J10(-1.3,1.95) J11(-0.65,1.95) J12(0,1.95) J13(0.65,1.95) J14(1.3,1.95) J15(1.95,1.95) J16(2.6,1.95) J17(3.25,1.95) J19(4.55,1.95) J20(5.2,1.95) J21(5.85,1.95) J22(6.5,1.95) K1(-7.15,1.3) K2(-6.5,1.3) K3(-5.85,1.3) K7(-3.25,1.3) K8(-2.6,1.3) K9(-1.95,1.3) K10(-1.3,1.3) K11(-0.65,1.3) K12(0,1.3) K13(0.65,1.3) K14(1.3,1.3) K15(1.95,1.3) K16(2.6,1.3) K17(3.25,1.3) K18(3.9,1.3) K20(5.2,1.3) K21(5.85,1.3) K22(6.5,1.3) K23(7.15,1.3) L2(-6.5,0.65) L3(-5.85,0.65) L4(-5.2,0.65) L5(-4.55,0.65) L6(-3.9,0.65) L7(-3.25,0.65) L8(-2.6,0.65) L9(-1.95,0.65) L10(-1.3,0.65) L11(-0.65,0.65) L12(0,0.65) L13(0.65,0.65) L14(1.3,0.65) L15(1.95,0.65) L16(2.6,0.65) L17(3.25,0.65) L18(3.9,0.65) L19(4.55,0.65) L20(5.2,0.65) L21(5.85,0.65) L22(6.5,0.65) M1(-7.15,0) M2(-6.5,0) M3(-5.85,0) M4(-5.2,0) M5(-4.55,0) M6(-3.9,0) M7(-3.25,0) M8(-2.6,0) M9(-1.95,0) M10(-1.3,0) M11(-0.65,0) M12(0,0) M13(0.65,0) M14(1.3,0) M15(1.95,0) M16(2.6,0) M17(3.25,0) M18(3.9,0) M19(4.55,0) M21(5.85,0) M22(6.5,0) M23(7.15,0) N2(-6.5,-0.65) N3(-5.85,-0.65) N7(-3.25,-0.65) N8(-2.6,-0.65) N9(-1.95,-0.65) N10(-1.3,-0.65) N11(-0.65,-0.65) N12(0,-0.65) N13(0.65,-0.65) N14(1.3,-0.65) N15(1.95,-0.65) N16(2.6,-0.65) N17(3.25,-0.65) N18(3.9,-0.65) N19(4.55,-0.65) N20(5.2,-0.65) N22(6.5,-0.65) N23(7.15,-0.65) P1(-7.15,-1.3) P2(-6.5,-1.3) P3(-5.85,-1.3) P4(-5.2,-1.3) P5(-4.55,-1.3) P6(-3.9,-1.3) P7(-3.25,-1.3) P8(-2.6,-1.3) P9(-1.95,-1.3) P10(-1.3,-1.3) P11(-0.65,-1.3) P12(0,-1.3) P13(0.65,-1.3) P14(1.3,-1.3) P15(1.95,-1.3) P16(2.6,-1.3) P17(3.25,-1.3) P18(3.9,-1.3) P19(4.55,-1.3) P20(5.2,-1.3) P21(5.85,-1.3) P22(6.5,-1.3) R2(-6.5,-1.95) R3(-5.85,-1.95) R5(-4.55,-1.95) R6(-3.9,-1.95) R7(-3.25,-1.95) R8(-2.6,-1.95) R9(-1.95,-1.95) R10(-1.3,-1.95) R11(-0.65,-1.95) R12(0,-1.95) R13(0.65,-1.95) R14(1.3,-1.95) R15(1.95,-1.95) R16(2.6,-1.95) R17(3.25,-1.95) R18(3.9,-1.95) R19(4.55,-1.95) R20(5.2,-1.95) R21(5.85,-1.95) R22(6.5,-1.95) R23(7.15,-1.95) T1(-7.15,-2.6) T2(-6.5,-2.6) T3(-5.85,-2.6) T7(-3.25,-2.6) T8(-2.6,-2.6) T9(-1.95,-2.6) T10(-1.3,-2.6) T11(-0.65,-2.6) T12(0,-2.6) T13(0.65,-2.6) T14(1.3,-2.6) T15(1.95,-2.6) T16(2.6,-2.6) T17(3.25,-2.6) T18(3.9,-2.6) T19(4.55,-2.6) T20(5.2,-2.6) T21(5.85,-2.6) T22(6.5,-2.6) U2(-6.5,-3.25) U3(-5.85,-3.25) U4(-5.2,-3.25) U5(-4.55,-3.25) U6(-3.9,-3.25) U7(-3.25,-3.25) U8(-2.6,-3.25) U9(-1.95,-3.25) U10(-1.3,-3.25) U11(-0.65,-3.25) U12(0,-3.25) U13(0.65,-3.25) U14(1.3,-3.25) U15(1.95,-3.25) U16(2.6,-3.25) U17(3.25,-3.25) U18(3.9,-3.25) U19(4.55,-3.25) U21(5.85,-3.25) U22(6.5,-3.25) U23(7.15,-3.25) V1(-7.15,-3.9) V2(-6.5,-3.9) V3(-5.85,-3.9) V5(-4.55,-3.9) V6(-3.9,-3.9) V7(-3.25,-3.9) V9(-1.95,-3.9) V10(-1.3,-3.9) V11(-0.65,-3.9) V13(0.65,-3.9) V15(1.95,-3.9) V17(3.25,-3.9) V19(4.55,-3.9) V20(5.2,-3.9) V21(5.85,-3.9) V22(6.5,-3.9) V23(7.15,-3.9) W1(-7.15,-4.55) W2(-6.5,-4.55) W3(-5.85,-4.55) W4(-5.2,-4.55) W5(-4.55,-4.55) W7(-3.25,-4.55) W8(-2.6,-4.55) W10(-1.3,-4.55) W11(-0.65,-4.55) W13(0.65,-4.55) W14(1.3,-4.55) W16(2.6,-4.55) W17(3.25,-4.55) W19(4.55,-4.55) W21(5.85,-4.55) W22(6.5,-4.55) W23(7.15,-4.55) Y1(-7.15,-5.2) Y2(-6.5,-5.2) Y3(-5.85,-5.2) Y5(-4.55,-5.2) Y7(-3.25,-5.2) Y8(-2.6,-5.2) Y10(-1.3,-5.2) Y11(-0.65,-5.2) Y13(0.65,-5.2) Y14(1.3,-5.2) Y16(2.6,-5.2) Y17(3.25,-5.2) Y19(4.55,-5.2) Y20(5.2,-5.2) Y21(5.85,-5.2) Y22(6.5,-5.2) Y23(7.15,-5.2)
TopOverlay:
  circle w0.2: c-8.1,7.5 r0.1
  lines w0.2: -7.6,-4.6 -7.6,-7.6 -4.6,-7.6 ; -7.6,4.6 -7.6,7.6 -4.6,7.6 ; 4.6,-7.6 7.6,-7.6 7.6,-4.6 ; 4.6,7.6 7.6,7.6 7.6,4.6
3D body: height 1.2, standoff 0.2, extent -7.5,-7.5 7.5,7.5

## BGA65_565 [mm] "BGA, FCCSP565L, Body 15.5x14.4x0.9mm, Pitch 0.65mm"
height 0.9
pads (565):
  round 0.3 smd mask+0.05: 1A1(-6.175,5.525) 1A2(-5.525,5.525) 1A3(-4.875,5.525) 1A4(-4.225,5.525) 1A5(-3.575,5.525) 1A6(-2.925,5.525) 1A7(-2.275,5.525) 1A8(-1.625,5.525) 1A9(-0.975,5.525) 1A10(-0.325,5.525) 1A11(0.325,5.525) 1A13(1.625,5.525) 1A14(2.275,5.525) 1A15(2.925,5.525) 1A16(3.575,5.525) 1A17(4.225,5.525) 1A18(4.875,5.525) 1A19(5.525,5.525) 1A20(6.175,5.525) 1B1(-6.175,4.875) 1B3(-4.875,4.875) 1B5(-3.575,4.875) 1B6(-2.925,4.875) 1B7(-2.275,4.875) 1B8(-1.625,4.875) 1B9(-0.975,4.875) 1B10(-0.325,4.875) 1B11(0.325,4.875) 1B13(1.625,4.875) 1B14(2.275,4.875) 1B15(2.925,4.875) 1B16(3.575,4.875) 1B17(4.225,4.875) 1B18(4.875,4.875) 1B19(5.525,4.875) 1B20(6.175,4.875) 1C1(-6.175,4.225) 1C2(-5.525,4.225) 1C3(-4.875,4.225) 1C4(-4.225,4.225) 1C5(-3.575,4.225) 1C6(-2.925,4.225) 1C7(-2.275,4.225) 1C8(-1.625,4.225) 1C9(-0.975,4.225) 1C10(-0.325,4.225) 1C12(0.975,4.225) 1C13(1.625,4.225) 1C14(2.275,4.225) 1C15(2.925,4.225) 1C16(3.575,4.225) 1C17(4.225,4.225) 1C18(4.875,4.225) 1C19(5.525,4.225) 1C20(6.175,4.225) 1D1(-6.175,3.575) 1D2(-5.525,3.575) 1D3(-4.875,3.575) 1D4(-4.225,3.575) 1D5(-3.575,3.575) 1D6(-2.925,3.575) 1D7(-2.275,3.575) 1D8(-1.625,3.575) 1D9(-0.975,3.575) 1D10(-0.325,3.575) 1D11(0.325,3.575) 1D12(0.975,3.575) 1D13(1.625,3.575) 1D14(2.275,3.575) 1D15(2.925,3.575) 1D16(3.575,3.575) 1D17(4.225,3.575) 1D18(4.875,3.575) 1D19(5.525,3.575) 1D20(6.175,3.575) 1E1(-6.175,2.925) 1E2(-5.525,2.925) 1E3(-4.875,2.925) 1E4(-4.225,2.925) 1E6(-2.925,2.925) 1E7(-2.275,2.925) 1E8(-1.625,2.925) 1E9(-0.975,2.925) 1E10(-0.325,2.925) 1E11(0.325,2.925) 1E12(0.975,2.925) 1E13(1.625,2.925) 1E14(2.275,2.925) 1E15(2.925,2.925) 1E16(3.575,2.925) 1E17(4.225,2.925) 1E18(4.875,2.925) 1E19(5.525,2.925) 1E20(6.175,2.925) 1F1(-6.175,2.275) 1F2(-5.525,2.275) 1F3(-4.875,2.275) 1F4(-4.225,2.275) 1F5(-3.575,2.275) 1F6(-2.925,2.275) 1F7(-2.275,2.275) 1F8(-1.625,2.275) 1F9(-0.975,2.275) 1F10(-0.325,2.275) 1F11(0.325,2.275) 1F12(0.975,2.275) 1F13(1.625,2.275) 1F14(2.275,2.275) 1F15(2.925,2.275) 1F16(3.575,2.275) 1F17(4.225,2.275) 1F18(4.875,2.275) 1F19(5.525,2.275) 1F20(6.175,2.275) 1G1(-6.175,1.625) 1G2(-5.525,1.625) 1G3(-4.875,1.625) 1G4(-4.225,1.625) 1G5(-3.575,1.625) 1G6(-2.925,1.625) 1G7(-2.275,1.625) 1G8(-1.625,1.625) 1G9(-0.975,1.625) 1G10(-0.325,1.625) 1G11(0.325,1.625) 1G12(0.975,1.625) 1G13(1.625,1.625) 1G14(2.275,1.625) 1G15(2.925,1.625) 1G16(3.575,1.625) 1G17(4.225,1.625) 1G18(4.875,1.625) 1G19(5.525,1.625) 1G20(6.175,1.625) 1H1(-6.175,0.975) 1H2(-5.525,0.975) 1H3(-4.875,0.975) 1H4(-4.225,0.975) 1H5(-3.575,0.975) 1H6(-2.925,0.975) 1H7(-2.275,0.975) 1H8(-1.625,0.975) 1H9(-0.975,0.975) 1H10(-0.325,0.975) 1H11(0.325,0.975) 1H12(0.975,0.975) 1H13(1.625,0.975) 1H14(2.275,0.975) 1H15(2.925,0.975) 1H16(3.575,0.975) 1H17(4.225,0.975) 1H18(4.875,0.975) 1H19(5.525,0.975) 1H20(6.175,0.975) 1J1(-6.175,0.325) 1J2(-5.525,0.325) 1J3(-4.875,0.325) 1J4(-4.225,0.325) 1J5(-3.575,0.325) 1J6(-2.925,0.325) 1J7(-2.275,0.325) 1J8(-1.625,0.325) 1J9(-0.975,0.325) 1J10(-0.325,0.325) 1J11(0.325,0.325) 1J12(0.975,0.325) 1J13(1.625,0.325) 1J14(2.275,0.325) 1J15(2.925,0.325) 1J16(3.575,0.325) 1J17(4.225,0.325) 1J18(4.875,0.325) 1J19(5.525,0.325) 1J20(6.175,0.325) 1K2(-5.525,-0.325) 1K3(-4.875,-0.325) 1K4(-4.225,-0.325) 1K5(-3.575,-0.325) 1K6(-2.925,-0.325) 1K7(-2.275,-0.325) 1K8(-1.625,-0.325) 1K9(-0.975,-0.325) 1K10(-0.325,-0.325) 1K11(0.325,-0.325) 1K12(0.975,-0.325) 1K13(1.625,-0.325) 1K14(2.275,-0.325) 1K15(2.925,-0.325) 1K16(3.575,-0.325) 1K17(4.225,-0.325) 1K18(4.875,-0.325) 1K19(5.525,-0.325) 1K20(6.175,-0.325) 1L1(-6.175,-0.975) 1L2(-5.525,-0.975) 1L3(-4.875,-0.975) 1L4(-4.225,-0.975) 1L5(-3.575,-0.975) 1L6(-2.925,-0.975) 1L7(-2.275,-0.975) 1L8(-1.625,-0.975) 1L9(-0.975,-0.975) 1L10(-0.325,-0.975) 1L11(0.325,-0.975) 1L12(0.975,-0.975) 1L13(1.625,-0.975) 1L14(2.275,-0.975) 1L15(2.925,-0.975) 1L19(5.525,-0.975) 1M3(-4.875,-1.625) 1M4(-4.225,-1.625) 1M5(-3.575,-1.625) 1M6(-2.925,-1.625) 1M7(-2.275,-1.625) 1M8(-1.625,-1.625) 1M9(-0.975,-1.625) 1M10(-0.325,-1.625) 1M11(0.325,-1.625) 1M12(0.975,-1.625) 1M13(1.625,-1.625) 1M14(2.275,-1.625) 1M15(2.925,-1.625) 1M16(3.575,-1.625) 1M17(4.225,-1.625) 1M18(4.875,-1.625) 1M19(5.525,-1.625) 1M20(6.175,-1.625) 1N1(-6.175,-2.275) 1N2(-5.525,-2.275) 1N3(-4.875,-2.275) 1N4(-4.225,-2.275) 1N5(-3.575,-2.275) 1N6(-2.925,-2.275) 1N7(-2.275,-2.275) 1N8(-1.625,-2.275) 1N9(-0.975,-2.275) 1N10(-0.325,-2.275) 1N11(0.325,-2.275) 1N12(0.975,-2.275) 1N13(1.625,-2.275) 1N14(2.275,-2.275) 1N15(2.925,-2.275) 1N16(3.575,-2.275) 1N17(4.225,-2.275) 1N18(4.875,-2.275) 1N19(5.525,-2.275) 1N20(6.175,-2.275) 1P1(-6.175,-2.925) 1P2(-5.525,-2.925) 1P3(-4.875,-2.925) 1P4(-4.225,-2.925) 1P5(-3.575,-2.925) 1P6(-2.925,-2.925) 1P7(-2.275,-2.925) 1P8(-1.625,-2.925) 1P9(-0.975,-2.925) 1P10(-0.325,-2.925) 1P11(0.325,-2.925) 1P12(0.975,-2.925) 1P13(1.625,-2.925) 1P14(2.275,-2.925) 1P15(2.925,-2.925) 1P16(3.575,-2.925) 1P17(4.225,-2.925) 1P18(4.875,-2.925) 1P19(5.525,-2.925) 1P20(6.175,-2.925) 1R1(-6.175,-3.575) 1R2(-5.525,-3.575) 1R3(-4.875,-3.575) 1R4(-4.225,-3.575) 1R5(-3.575,-3.575) 1R6(-2.925,-3.575) 1R7(-2.275,-3.575) 1R8(-1.625,-3.575) 1R9(-0.975,-3.575) 1R10(-0.325,-3.575) 1R11(0.325,-3.575) 1R12(0.975,-3.575) 1R13(1.625,-3.575) 1R14(2.275,-3.575) 1R15(2.925,-3.575) 1R16(3.575,-3.575) 1R17(4.225,-3.575) 1R18(4.875,-3.575) 1R19(5.525,-3.575) 1R20(6.175,-3.575) 1T1(-6.175,-4.225) 1T2(-5.525,-4.225) 1T3(-4.875,-4.225) 1T4(-4.225,-4.225) 1T5(-3.575,-4.225) 1T6(-2.925,-4.225) 1T7(-2.275,-4.225) 1T8(-1.625,-4.225) 1T9(-0.975,-4.225) 1T10(-0.325,-4.225) 1T11(0.325,-4.225) 1T12(0.975,-4.225) 1T13(1.625,-4.225) 1T14(2.275,-4.225) 1T15(2.925,-4.225) 1T16(3.575,-4.225) 1T17(4.225,-4.225) 1T18(4.875,-4.225) 1T19(5.525,-4.225) 1T20(6.175,-4.225) 1U1(-6.175,-4.875) 1U2(-5.525,-4.875) 1U3(-4.875,-4.875) 1U4(-4.225,-4.875) 1U5(-3.575,-4.875) 1U6(-2.925,-4.875) 1U7(-2.275,-4.875) 1U8(-1.625,-4.875) 1U9(-0.975,-4.875) 1U11(0.325,-4.875) 1U12(0.975,-4.875) 1U13(1.625,-4.875) 1U15(2.925,-4.875) 1U16(3.575,-4.875) 1U17(4.225,-4.875) 1U18(4.875,-4.875) 1U19(5.525,-4.875) 1U20(6.175,-4.875) 1V1(-6.175,-5.525) 1V2(-5.525,-5.525) 1V3(-4.875,-5.525) 1V4(-4.225,-5.525) 1V5(-3.575,-5.525) 1V6(-2.925,-5.525) 1V7(-2.275,-5.525) 1V8(-1.625,-5.525) 1V9(-0.975,-5.525) 1V11(0.325,-5.525) 1V12(0.975,-5.525) 1V13(1.625,-5.525) 1V15(2.925,-5.525) 1V16(3.575,-5.525) 1V17(4.225,-5.525) 1V18(4.875,-5.525) 1V19(5.525,-5.525) 1V20(6.175,-5.525)
  round 0.2 smd mask+0.05: A1(-7.4,6.8) A2(-7,6.8) A3(-6.6,6.8) A5(-5.8,6.8) A7(-5,6.8) A9(-4.2,6.8) A10(-3.8,6.8) A12(-3,6.8) A13(-2.6,6.8) A15(-1.8,6.8) A17(-1,6.8) A19(-0.2,6.8) A20(0.2,6.8) A22(1,6.8) A23(1.4,6.8) A26(2.6,6.8) A27(3,6.8) A29(3.8,6.8) A30(4.2,6.8) A32(5,6.8) A33(5.4,6.8) A35(6.2,6.8) A37(7,6.8) A38(7.4,6.8) AA2(-7,-1.2) AA37(7,-1.2) AA38(7.4,-1.2) AB1(-7.4,-1.6) AB2(-7,-1.6) AB37(7,-1.6) AB38(7.4,-1.6) AC2(-7,-2) AC37(7,-2) AD1(-7.4,-2.4) AD2(-7,-2.4) AD37(7,-2.4) AD38(7.4,-2.4) AE2(-7,-2.8) AE37(7,-2.8) AF1(-7.4,-3.2) AF2(-7,-3.2) AF37(7,-3.2) AF38(7.4,-3.2) AG2(-7,-3.6) AG37(7,-3.6) AG38(7.4,-3.6) AH2(-7,-4) AH37(7,-4) AJ1(-7.4,-4.4) AJ2(-7,-4.4) AJ37(7,-4.4) AJ38(7.4,-4.4) AK2(-7,-4.8) AK37(7,-4.8) AK38(7.4,-4.8) AL1(-7.4,-5.2) AL2(-7,-5.2) AL37(7,-5.2) AM1(-7.4,-5.6) AM2(-7,-5.6) AM37(7,-5.6) AM38(7.4,-5.6) AN2(-7,-6) AN37(7,-6) AN38(7.4,-6) AP1(-7.4,-6.4) AP2(-7,-6.4) AP3(-6.6,-6.4) AP4(-6.2,-6.4) AP5(-5.8,-6.4) AP6(-5.4,-6.4) AP7(-5,-6.4) AP8(-4.6,-6.4) AP9(-4.2,-6.4) AP10(-3.8,-6.4) AP11(-3.4,-6.4) AP12(-3,-6.4) AP13(-2.6,-6.4) AP14(-2.2,-6.4) AP15(-1.8,-6.4) AP16(-1.4,-6.4) AP17(-1,-6.4) AP18(-0.6,-6.4) AP19(-0.2,-6.4) AP20(0.2,-6.4) AP21(0.6,-6.4) AP22(1,-6.4) AP23(1.4,-6.4) AP24(1.8,-6.4) AP25(2.2,-6.4) AP26(2.6,-6.4) AP27(3,-6.4) AP28(3.4,-6.4) AP29(3.8,-6.4) AP30(4.2,-6.4) AP31(4.6,-6.4) AP32(5,-6.4) AP33(5.4,-6.4) AP34(5.8,-6.4) AP35(6.2,-6.4) AP36(6.6,-6.4) AP37(7,-6.4) AR1(-7.4,-6.8) AR2(-7,-6.8) AR4(-6.2,-6.8) AR6(-5.4,-6.8) AR7(-5,-6.8) AR9(-4.2,-6.8) AR10(-3.8,-6.8) AR12(-3,-6.8) AR14(-2.2,-6.8) AR15(-1.8,-6.8) AR17(-1,-6.8) AR18(-0.6,-6.8) AR20(0.2,-6.8) AR21(0.6,-6.8) AR23(1.4,-6.8) AR24(1.8,-6.8) AR26(2.6,-6.8) AR27(3,-6.8) AR29(3.8,-6.8) AR30(4.2,-6.8) AR32(5,-6.8) AR33(5.4,-6.8) AR35(6.2,-6.8) AR36(6.6,-6.8) AR38(7.4,-6.8) B1(-7.4,6.4) B2(-7,6.4) B3(-6.6,6.4) B4(-6.2,6.4) B5(-5.8,6.4) B6(-5.4,6.4) B7(-5,6.4) B8(-4.6,6.4) B9(-4.2,6.4) B10(-3.8,6.4) B11(-3.4,6.4) B12(-3,6.4) B13(-2.6,6.4) B14(-2.2,6.4) B15(-1.8,6.4) B16(-1.4,6.4) B17(-1,6.4) B18(-0.6,6.4) B19(-0.2,6.4) B20(0.2,6.4) B21(0.6,6.4) B22(1,6.4) B23(1.4,6.4) B24(1.8,6.4) B25(2.2,6.4) B26(2.6,6.4) B27(3,6.4) B28(3.4,6.4) B29(3.8,6.4) B30(4.2,6.4) B31(4.6,6.4) B32(5,6.4) B33(5.4,6.4) B34(5.8,6.4) B35(6.2,6.4) B36(6.6,6.4) B37(7,6.4) B38(7.4,6.4) C1(-7.4,6) C2(-7,6) C37(7,6) D2(-7,5.6) D37(7,5.6) D38(7.4,5.6) E1(-7.4,5.2) E2(-7,5.2) E37(7,5.2) F1(-7.4,4.8) F2(-7,4.8) F37(7,4.8) F38(7.4,4.8) G2(-7,4.4) G37(7,4.4) G38(7.4,4.4) H1(-7.4,4) H2(-7,4) H37(7,4) J2(-7,3.6) J37(7,3.6) J38(7.4,3.6) K1(-7.4,3.2) K2(-7,3.2) K37(7,3.2) K38(7.4,3.2) L2(-7,2.8) L37(7,2.8) M1(-7.4,2.4) M2(-7,2.4) M37(7,2.4) M38(7.4,2.4) N1(-7.4,2) N2(-7,2) N37(7,2) N38(7.4,2) P2(-7,1.6) P37(7,1.6) R1(-7.4,1.2) R2(-7,1.2) R37(7,1.2) R38(7.4,1.2) T2(-7,0.8) T37(7,0.8) T38(7.4,0.8) U2(-7,0.4) U37(7,0.4) V1(-7.4,0) V2(-7,0) V37(7,0) V38(7.4,0) W2(-7,-0.4) W37(7,-0.4) W38(7.4,-0.4) Y1(-7.4,-0.8) Y2(-7,-0.8) Y37(7,-0.8)
TopOverlay:
  circle w0.2: c-8.3,7.2 r0.1
  region: -6.8,6.2 -6.8,5.7 -6.3,6.2
  lines w0.2: -7.85,-7.3 7.85,-7.3 7.85,7.3 -7.85,7.3 -7.85,-7.3
Mechanical13:
  lines w0.1: -7.75,-7.2 7.75,-7.2 7.75,7.2 -7.75,7.2 -7.75,-7.2
3D body "BGA65_565.step": height 0.9, standoff 0, extent -7.75,-7.2 7.75,7.2

## BGA75_48_9X11 [mm] "FBGA-48, 0.75mm pitch, 6X8, 8X9.5, 9X11"
height 1.4
pads (48):
  round 0.3 smd mask+0.075: A1(-1.875,2.625) A2(-1.125,2.625) A3(-0.375,2.625) A4(0.375,2.625) A5(1.125,2.625) A6(1.875,2.625) B1(-1.875,1.875) B2(-1.125,1.875) B3(-0.375,1.875) B4(0.375,1.875) B5(1.125,1.875) B6(1.875,1.875) C1(-1.875,1.125) C2(-1.125,1.125) C3(-0.375,1.125) C4(0.375,1.125) C5(1.125,1.125) C6(1.875,1.125) D1(-1.875,0.375) D2(-1.125,0.375) D3(-0.375,0.375) D4(0.375,0.375) D5(1.125,0.375) D6(1.875,0.375) E1(-1.875,-0.375) E2(-1.125,-0.375) E3(-0.375,-0.375) E4(0.375,-0.375) E5(1.125,-0.375) E6(1.875,-0.375) F1(-1.875,-1.125) F2(-1.125,-1.125) F3(-0.375,-1.125) F4(0.375,-1.125) F5(1.125,-1.125) F6(1.875,-1.125) G1(-1.875,-1.875) G2(-1.125,-1.875) G3(-0.375,-1.875) G4(0.375,-1.875) G5(1.125,-1.875) G6(1.875,-1.875) H1(-1.875,-2.625) H2(-1.125,-2.625) H3(-0.375,-2.625) H4(0.375,-2.625) H5(1.125,-2.625) H6(1.875,-2.625)
TopOverlay:
  circle w0.25: c-5.05,4.6 r0.125
  region: -2,4 -3,3 -3,4
  region: -3.5,5.5 -4.5,4.5 -4.5,5.5
  region: -3,4.75 -4,3.75 -4,4.75
  lines w0.2: -4.5,4.5 -3.5,5.5 ; -4,3.75 -3,4.75 ; -3,3 -2,4 ; -4.6,-5.6 4.6,-5.6 4.6,5.6 -4.6,5.6 -4.6,-5.6 ; -4.1,-4.85 -4.1,4.85 4.1,4.85 4.1,-4.85 -4.1,-4.85 ; -3.1,-4.1 3.1,-4.1 3.1,4.1 -3.1,4.1 -3.1,-4.1
Mechanical13:
  lines w0.1: -4,-4.75 -4,4.75 4,4.75 4,-4.75 -4,-4.75
3D body "BGA75_48_8X9.step": height 1.4, standoff 0, extent -4,-4.75 4,4.75

## BGA80_6X8_S7 [mm] "6X8"
pads (48):
  round 0.45 smd: A1(-2.8,2) A2(-2,2) A3(-1.2,2) A4(-0.4,2) A5(0.4,2) A6(1.2,2) A7(2,2) A8(2.8,2) B1(-2.8,1.2) B2(-2,1.2) B3(-1.2,1.2) B4(-0.4,1.2) B5(0.4,1.2) B6(1.2,1.2) B7(2,1.2) B8(2.8,1.2) C1(-2.8,0.4) C2(-2,0.4) C3(-1.2,0.4) C4(-0.4,0.4) C5(0.4,0.4) C6(1.2,0.4) C7(2,0.4) C8(2.8,0.4) D1(-2.8,-0.4) D2(-2,-0.4) D3(-1.2,-0.4) D4(-0.4,-0.4) D5(0.4,-0.4) D6(1.2,-0.4) D7(2,-0.4) D8(2.8,-0.4) E1(-2.8,-1.2) E2(-2,-1.2) E3(-1.2,-1.2) E4(-0.4,-1.2) E5(0.4,-1.2) E6(1.2,-1.2) E7(2,-1.2) E8(2.8,-1.2) F1(-2.8,-2) F2(-2,-2) F3(-1.2,-2) F4(-0.4,-2) F5(0.4,-2) F6(1.2,-2) F7(2,-2) F8(2.8,-2)
TopOverlay:
  circle w0.2: c-4.15,2.8 r0.2
  lines w0.2: -3.5,2.5 -2.5,3.5 ; -3.5,-3.5 -3.5,3.5 3.5,3.5 3.5,-3.5 -3.5,-3.5
Mechanical13:
  lines w0.1: -3.5,-3.5 -3.5,3.5 3.5,3.5 3.5,-3.5 -3.5,-3.5
Mechanical15:
  lines w0.1: -0.5,0 0.5,0 ; 0,-0.5 0,0.5 ; -4.5,-4.5 -4.5,4.5 4.5,4.5 4.5,-4.5 -4.5,-4.5

## BGA80_6X8_S9 [mm]
pads (48):
  round 0.45 smd: A1(-2,2.8) A2(-1.2,2.8) A3(-0.4,2.8) A4(0.4,2.8) A5(1.2,2.8) A6(2,2.8) B1(-2,2) B2(-1.2,2) B3(-0.4,2) B4(0.4,2) B5(1.2,2) B6(2,2) C1(-2,1.2) C2(-1.2,1.2) C3(-0.4,1.2) C4(0.4,1.2) C5(1.2,1.2) C6(2,1.2) D1(-2,0.4) D2(-1.2,0.4) D3(-0.4,0.4) D4(0.4,0.4) D5(1.2,0.4) D6(2,0.4) E1(-2,-0.4) E2(-1.2,-0.4) E3(-0.4,-0.4) E4(0.4,-0.4) E5(1.2,-0.4) E6(2,-0.4) F1(-2,-1.2) F2(-1.2,-1.2) F3(-0.4,-1.2) F4(0.4,-1.2) F5(1.2,-1.2) F6(2,-1.2) G1(-2,-2) G2(-1.2,-2) G3(-0.4,-2) G4(0.4,-2) G5(1.2,-2) G6(2,-2) H1(-2,-2.8) H2(-1.2,-2.8) H3(-0.4,-2.8) H4(0.4,-2.8) H5(1.2,-2.8) H6(2,-2.8)
TopOverlay:
  circle w0.2: c-4.65,2.8 r0.2
  lines w0.2: -4,3.5 -3,4.5 ; -4,-4.5 4,-4.5 4,4.5 -4,4.5 -4,-4.5
Mechanical13:
  lines w0.1: -4,-4.5 4,-4.5 4,4.5 -4,4.5 -4,-4.5
Mechanical15:
  lines w0.1: -0.5,0 0.5,0 ; 0,-0.5 0,0.5 ; -5,-5.5 5,-5.5 5,5.5 -5,5.5 -5,-5.5

## BGA80_36_S6 [mm]
pads (36):
  round 0.45 smd: A1(-2,2) A2(-1.2,2) A3(-0.4,2) A4(0.4,2) A5(1.2,2) A6(2,2) B1(-2,1.2) B2(-1.2,1.2) B3(-0.4,1.2) B4(0.4,1.2) B5(1.2,1.2) B6(2,1.2) C1(-2,0.4) C2(-1.2,0.4) C3(-0.4,0.4) C4(0.4,0.4) C5(1.2,0.4) C6(2,0.4) D1(-2,-0.4) D2(-1.2,-0.4) D3(-0.4,-0.4) D4(0.4,-0.4) D5(1.2,-0.4) D6(2,-0.4) E1(-2,-1.2) E2(-1.2,-1.2) E3(-0.4,-1.2) E4(0.4,-1.2) E5(1.2,-1.2) E6(2,-1.2) F1(-2,-2) F2(-1.2,-2) F3(-0.4,-2) F4(0.4,-2) F5(1.2,-2) F6(2,-2)
TopOverlay:
  circle w0.2: c-3.5,2.8 r0.2
  lines w0.2: -2.975,1.975 -1.975,2.975 ; -3.1,-3.1 3.1,-3.1 3.1,3.1 -3.1,3.1 -3.1,-3.1
Mechanical13:
  lines w0.1: -3,-3 3,-3 3,3 -3,3 -3,-3
Mechanical15:
  lines w0.1: -0.5,0 0.5,0 ; 0,-0.5 0,0.5 ; -3.975,-3.975 3.975,-3.975 3.975,3.975 -3.975,3.975 -3.975,-3.975

## BGA80_42_5060 [mm] "BGA pitch 0.8mm. 5x6x1.3mm"
height 1.3
pads (42):
  round 0.4 smd mask+0.075: A1(-2,2.4) A2(-1.2,2.4) A3(-0.4,2.4) A4(0.4,2.4) A5(1.2,2.4) A6(2,2.4) B1(-2,1.6) B2(-1.2,1.6) B3(-0.4,1.6) B4(0.4,1.6) B5(1.2,1.6) B6(2,1.6) C1(-2,0.8) C2(-1.2,0.8) C3(-0.4,0.8) C4(0.4,0.8) C5(1.2,0.8) C6(2,0.8) D1(-2,0) D2(-1.2,0) D3(-0.4,0) D4(0.4,0) D5(1.2,0) E1(-2,-0.8) E2(-1.2,-0.8) E3(-0.4,-0.8) E4(0.4,-0.8) E5(1.2,-0.8) E6(2,-0.8) F1(-2,-1.6) F2(-1.2,-1.6) F3(-0.4,-1.6) F4(0.4,-1.6) F5(1.2,-1.6) F6(2,-1.6) G1(-2,-2.4) G2(-1.2,-2.4) G3(-0.4,-2.4) G4(0.4,-2.4) G5(1.2,-2.4) G6(2,-2.4)
  round 0.4 smd paste+0 mask+0.075: D6(2,0)
TopOverlay:
  region: -2.9,3.2 -2.9,2.6 -3.4,2.6 -3.4,3.2
  region: -2.6,3.1 -2,3.1 -2.6,2.5
  lines w0.2: -2.6,-3.1 2.6,-3.1 2.6,3.1 -2.6,3.1 -2.6,-3.1
3D body: height 1.3, standoff 0, extent -2.5,-3 2.5,3

## BGA80_49_S7 [mm]
pads (49):
  round 0.45 smd mask+0.05: A1(-2.4,2.4) A2(-1.6,2.4) A3(-0.8,2.4) A4(0,2.4) A5(0.8,2.4) A6(1.6,2.4) A7(2.4,2.4) B1(-2.4,1.6) B2(-1.6,1.6) B3(-0.8,1.6) B4(0,1.6) B5(0.8,1.6) B6(1.6,1.6) B7(2.4,1.6) C1(-2.4,0.8) C2(-1.6,0.8) C3(-0.8,0.8) C4(0,0.8) C5(0.8,0.8) C6(1.6,0.8) C7(2.4,0.8) D1(-2.4,0) D2(-1.6,0) D3(-0.8,0) D4(0,0) D5(0.8,0) D6(1.6,0) D7(2.4,0) E1(-2.4,-0.8) E2(-1.6,-0.8) E3(-0.8,-0.8) E4(0,-0.8) E5(0.8,-0.8) E6(1.6,-0.8) E7(2.4,-0.8) F1(-2.4,-1.6) F2(-1.6,-1.6) F3(-0.8,-1.6) F4(0,-1.6) F5(0.8,-1.6) F6(1.6,-1.6) F7(2.4,-1.6) G1(-2.4,-2.4) G2(-1.6,-2.4) G3(-0.8,-2.4) G4(0,-2.4) G5(0.8,-2.4) G6(1.6,-2.4) G7(2.4,-2.4)
TopOverlay:
  circle w0.2: c-4.15,2.4 r0.2
  lines w0.2: -3.5,-2.5 -3.5,3.5 2.5,3.5 3.5,2.5 3.5,-2.5 2.5,-3.5 -2.5,-3.5 -3.5,-2.5

## BGA80_54_8X8 [mm] "BGA, 54-Leads, Body 8.0x8.0mmx1.2mm, Pitch 0.80mm"
height 1.2
pads (54):
  round 0.4 smd mask+0.05: A1(-3.2,3.2) A2(-2.4,3.2) A3(-1.6,3.2) A7(1.6,3.2) A8(2.4,3.2) A9(3.2,3.2) B1(-3.2,2.4) B2(-2.4,2.4) B3(-1.6,2.4) B7(1.6,2.4) B8(2.4,2.4) B9(3.2,2.4) C1(-3.2,1.6) C2(-2.4,1.6) C3(-1.6,1.6) C7(1.6,1.6) C8(2.4,1.6) C9(3.2,1.6) D1(-3.2,0.8) D2(-2.4,0.8) D3(-1.6,0.8) D7(1.6,0.8) D8(2.4,0.8) D9(3.2,0.8) E1(-3.2,0) E2(-2.4,0) E3(-1.6,0) E7(1.6,0) E8(2.4,0) E9(3.2,0) F1(-3.2,-0.8) F2(-2.4,-0.8) F3(-1.6,-0.8) F7(1.6,-0.8) F8(2.4,-0.8) F9(3.2,-0.8) G1(-3.2,-1.6) G2(-2.4,-1.6) G3(-1.6,-1.6) G7(1.6,-1.6) G8(2.4,-1.6) G9(3.2,-1.6) H1(-3.2,-2.4) H2(-2.4,-2.4) H3(-1.6,-2.4) H7(1.6,-2.4) H8(2.4,-2.4) H9(3.2,-2.4) J1(-3.2,-3.2) J2(-2.4,-3.2) J3(-1.6,-3.2) J7(1.6,-3.2) J8(2.4,-3.2) J9(3.2,-3.2)
TopOverlay:
  circle w0.2: c-4.7,3.9 r0.2
  region: -3.356,4.1 -4.1,3.356 -4.1,4.1
  lines w0.2: -4.1,3.356 -3.356,4.1 ; -4.1,-4.1 -4.1,4.1 4.1,4.1 4.1,-4.1 -4.1,-4.1
3D body "BGA80_54_8X8_.step": height 1.2, standoff 0, extent -4,-4 4,4

## BGA80_60_8X11 [mm] "DDR 60-BALL 11.5X8"
pads (60):
  round 0.45 smd mask+0.1: A1(-3.2,3.6) A2(-2.4,3.6) A3(-1.6,3.6) A7(1.6,3.6) A8(2.4,3.6) A9(3.2,3.6) B1(-3.2,2.8) B2(-2.4,2.8) B3(-1.6,2.8) B7(1.6,2.8) B8(2.4,2.8) B9(3.2,2.8) C1(-3.2,2) C2(-2.4,2) C3(-1.6,2) C7(1.6,2) C8(2.4,2) C9(3.2,2) D1(-3.2,1.2) D2(-2.4,1.2) D3(-1.6,1.2) D7(1.6,1.2) D8(2.4,1.2) D9(3.2,1.2) E1(-3.2,0.4) E2(-2.4,0.4) E3(-1.6,0.4) E7(1.6,0.4) E8(2.4,0.4) E9(3.2,0.4) F1(-3.2,-0.4) F2(-2.4,-0.4) F3(-1.6,-0.4) F7(1.6,-0.4) F8(2.4,-0.4) F9(3.2,-0.4) G1(-3.2,-1.2) G2(-2.4,-1.2) G3(-1.6,-1.2) G7(1.6,-1.2) G8(2.4,-1.2) G9(3.2,-1.2) H1(-3.2,-2) H2(-2.4,-2) H3(-1.6,-2) H7(1.6,-2) H8(2.4,-2) H9(3.2,-2) J1(-3.2,-2.8) J2(-2.4,-2.8) J3(-1.6,-2.8) J7(1.6,-2.8) J8(2.4,-2.8) J9(3.2,-2.8) K1(-3.2,-3.6) K2(-2.4,-3.6) K3(-1.6,-3.6) K7(1.6,-3.6) K8(2.4,-3.6) K9(3.2,-3.6)
TopOverlay:
  circle w0.2: c-6.096,5.207 r0.2
  circle w0.2: c-4.953,5.207 r0.2
  lines w0.2: -5.6,-5.9 5.6,-5.9 5.6,5.9 -5.6,5.9 -5.6,-5.9
3D body: height 1, standoff 0, extent -5.5,-5.8 5.5,5.8

## BGA80_60_9X11 [mm] "BGA, 60-Balls, Body 11.5x9mm, Pitch 0.8mm"
height 1.2
pads (60):
  round 0.4 smd: A1(-3.2,4) A2(-2.4,4) A3(-1.6,4) A7(1.6,4) A8(2.4,4) A9(3.2,4) B1(-3.2,3.2) B2(-2.4,3.2) B3(-1.6,3.2) B7(1.6,3.2) B8(2.4,3.2) B9(3.2,3.2) C1(-3.2,2.4) C2(-2.4,2.4) C3(-1.6,2.4) C7(1.6,2.4) C8(2.4,2.4) C9(3.2,2.4) D1(-3.2,1.6) D2(-2.4,1.6) D3(-1.6,1.6) D7(1.6,1.6) D8(2.4,1.6) D9(3.2,1.6) E1(-3.2,0.8) E2(-2.4,0.8) E3(-1.6,0.8) E7(1.6,0.8) E8(2.4,0.8) E9(3.2,0.8) F2(-2.4,0) F3(-1.6,0) F7(1.6,0) F8(2.4,0) F9(3.2,0) G1(-3.2,-0.8) G2(-2.4,-0.8) G3(-1.6,-0.8) G7(1.6,-0.8) G8(2.4,-0.8) H2(-2.4,-1.6) H3(-1.6,-1.6) H7(1.6,-1.6) H8(2.4,-1.6) H9(3.2,-1.6) J1(-3.2,-2.4) J2(-2.4,-2.4) J3(-1.6,-2.4) J7(1.6,-2.4) J8(2.4,-2.4) K2(-2.4,-3.2) K3(-1.6,-3.2) K7(1.6,-3.2) K8(2.4,-3.2) K9(3.2,-3.2) L1(-3.2,-4) L2(-2.4,-4) L3(-1.6,-4) L7(1.6,-4) L8(2.4,-4)
TopOverlay:
  circle w0.25: c-5.15,5.6 r0.125
  region: -3.5,5.75 -4.5,4.75 -4.5,5.75
  lines w0.2: -4.5,4.75 -3.5,5.75 ; -4.5,-5.75 -4.5,5.75 4.5,5.75 4.5,-5.75 -4.5,-5.75
Mechanical13:
  lines w0.1: -4.5,-5.75 -4.5,5.75 4.5,5.75 4.5,-5.75 -4.5,-5.75
Mechanical15:
  lines w0.05: -5,-6.25 -5,6.25 5,6.25 5,-6.25 -5,-6.25
  lines w0.1: -0.5,0 0.5,0 ; 0,-0.5 0,0.5
3D body: height 1.2, standoff 0.1, extent -4.5,-5.75 4.5,5.75

## BGA80_63_9X11 [mm] "BGA, 63-Balls, Body 11.5x9mm, Pitch 0.8mm"
height 1.2
pads (63):
  round 0.4 smd: A1(-3.2,4) A2(-2.4,4) A3(-1.6,4) A7(1.6,4) A8(2.4,4) A9(3.2,4) B1(-3.2,3.2) B2(-2.4,3.2) B3(-1.6,3.2) B7(1.6,3.2) B8(2.4,3.2) B9(3.2,3.2) C1(-3.2,2.4) C2(-2.4,2.4) C3(-1.6,2.4) C7(1.6,2.4) C8(2.4,2.4) C9(3.2,2.4) D1(-3.2,1.6) D2(-2.4,1.6) D3(-1.6,1.6) D7(1.6,1.6) D8(2.4,1.6) D9(3.2,1.6) E1(-3.2,0.8) E2(-2.4,0.8) E3(-1.6,0.8) E7(1.6,0.8) E8(2.4,0.8) E9(3.2,0.8) F2(-2.4,0) F3(-1.6,0) F7(1.6,0) F8(2.4,0) F9(3.2,0) G1(-3.2,-0.8) G2(-2.4,-0.8) G3(-1.6,-0.8) G7(1.6,-0.8) G8(2.4,-0.8) G9(3.2,-0.8) H1(-3.2,-1.6) H2(-2.4,-1.6) H3(-1.6,-1.6) H7(1.6,-1.6) H8(2.4,-1.6) H9(3.2,-1.6) J1(-3.2,-2.4) J2(-2.4,-2.4) J3(-1.6,-2.4) J7(1.6,-2.4) J8(2.4,-2.4) J9(3.2,-2.4) K2(-2.4,-3.2) K3(-1.6,-3.2) K7(1.6,-3.2) K8(2.4,-3.2) K9(3.2,-3.2) L1(-3.2,-4) L2(-2.4,-4) L3(-1.6,-4) L7(1.6,-4) L8(2.4,-4)
TopOverlay:
  circle w0.25: c-5.15,5.6 r0.125
  region: -3.5,5.75 -4.5,4.75 -4.5,5.75
  lines w0.2: -4.5,4.75 -3.5,5.75 ; -4.5,-5.75 -4.5,5.75 4.5,5.75 4.5,-5.75 -4.5,-5.75
Mechanical13:
  lines w0.1: -4.5,-5.75 -4.5,5.75 4.5,5.75 4.5,-5.75 -4.5,-5.75
Mechanical15:
  lines w0.05: -5,-6.25 -5,6.25 5,6.25 5,-6.25 -5,-6.25
  lines w0.1: -0.5,0 0.5,0 ; 0,-0.5 0,0.5
3D body: height 1.2, standoff 0.25, extent -4.5,-5.75 4.5,5.75

## BGA80_63_12X14 [mm] "BGA, VFBGA63, VBM063, 0.8mm pitch"
height 0.6
pads (63):
  round 0.4 smd mask+0.05: A1(-3.6,4.4) A2(-2.8,4.4) A9(2.8,4.4) A10(3.6,4.4) B1(-3.6,3.6) B9(2.8,3.6) B10(3.6,3.6) C3(-2,2.8) C4(-1.2,2.8) C5(-0.4,2.8) C6(0.4,2.8) C7(1.2,2.8) C8(2,2.8) D3(-2,2) D4(-1.2,2) D5(-0.4,2) D6(0.4,2) D7(1.2,2) D8(2,2) E3(-2,1.2) E4(-1.2,1.2) E5(-0.4,1.2) E6(0.4,1.2) E7(1.2,1.2) E8(2,1.2) F3(-2,0.4) F4(-1.2,0.4) F5(-0.4,0.4) F6(0.4,0.4) F7(1.2,0.4) F8(2,0.4) G3(-2,-0.4) G4(-1.2,-0.4) G5(-0.4,-0.4) G6(0.4,-0.4) G7(1.2,-0.4) G8(2,-0.4) H3(-2,-1.2) H4(-1.2,-1.2) H5(-0.4,-1.2) H6(0.4,-1.2) H7(1.2,-1.2) H8(2,-1.2) J3(-2,-2) J4(-1.2,-2) J5(-0.4,-2) J6(0.4,-2) J7(1.2,-2) J8(2,-2) K3(-2,-2.8) K4(-1.2,-2.8) K5(-0.4,-2.8) K6(0.4,-2.8) K7(1.2,-2.8) K8(2,-2.8) L1(-3.6,-3.6) L2(-2.8,-3.6) L9(2.8,-3.6) L10(3.6,-3.6) M1(-3.6,-4.4) M2(-2.8,-4.4) M9(2.8,-4.4) M10(3.6,-4.4)
TopOverlay:
  region: -6.1,7.1 -5.1,7.1 -6.1,6.1
  lines w0.2: -6.1,6.1 -5.1,7.1 ; -5.3,-5.6 -5.3,-6.6 -4.3,-6.6 ; -5.3,5.6 -5.3,6.6 -4.3,6.6 ; -4.6,-4.6 -4.6,-5.6 -3.6,-5.6 ; -4.6,4.6 -4.6,5.6 -3.6,5.6 ; 3.6,-5.6 4.6,-5.6 4.6,-4.6 ; 3.6,5.6 4.6,5.6 4.6,4.6 ; 4.3,-6.6 5.3,-6.6 5.3,-5.6 ; 4.3,6.6 5.3,6.6 5.3,5.6 ; -6.1,-7.1 -6.1,7.1 6.1,7.1 6.1,-7.1 -6.1,-7.1
  text "A" at -5.79,4.246 h0.5
  text "1" at -3.8,6.3 h0.5
  text "B" at -5.767,3.446 h0.5
  text "C" at -5.779,2.646 h0.5
  text "D" at -5.767,1.846 h0.5
  text "E" at -5.755,1.046 h0.5
  text "F" at -5.755,0.246 h0.5
  text "G" at -5.779,-0.554 h0.5
  text "H" at -5.767,-1.354 h0.5
  text "J" at -5.719,-2.154 h0.5
  text "K" at -5.767,-2.954 h0.5
  text "L" at -5.743,-3.754 h0.5
  text "M" at -5.79,-4.554 h0.5
  text "2" at -3,6.3 h0.5
  text "3" at -2.2,6.3 h0.5
  text "4" at -1.4,6.3 h0.5
  text "5" at -0.6,6.3 h0.5
  text "6" at 0.2,6.3 h0.5
  text "7" at 1,6.3 h0.5
  text "8" at 1.8,6.3 h0.5
  text "9" at 2.6,6.3 h0.5
  text "10" at 3.4,6.3 h0.5
3D body "User Library-VFBGA_63.step": height 0.95, standoff -0.05, extent -5.25,-6.5 5.25,6.5